# Altium footprint library 贴片半导体.PcbLib: 5 footprints
Each footprint in its own frame and in the unit in brackets; x right, y up, seen from the top. Pads: shape width x height; smd on the part's side, far side on the other; paste and mask are expansions set on the pad; w line width, h text height; cw(c..) or ccw(c..) is an arc to the next point about the centre after c.
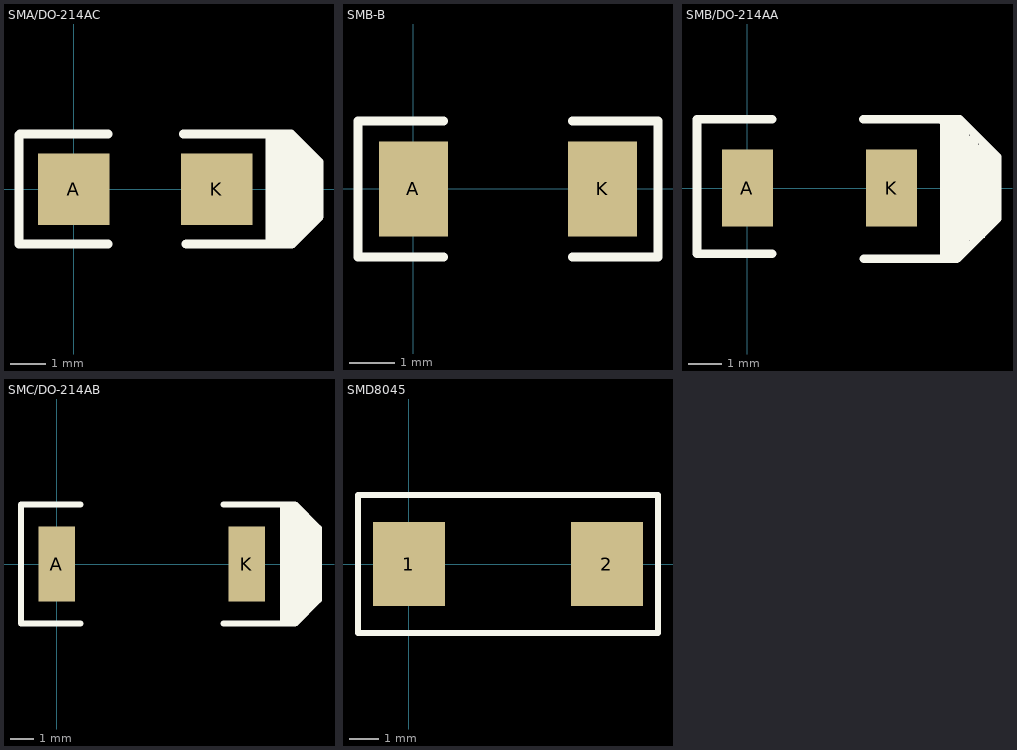
[diagram p0: the footprints below, top view; thin cyan lines are the x and y axes]

## SMA/DO-214AC [mm]
pads (2):
  rect 2x2 smd: A(0,0) K(4,0)
Top Overlay:
  rectangle: 6.35,-0.762 6.858,-0.381
  rectangle: 6.325,-0.61 6.858,0.762
  rectangle: 6.223,-1.118 6.625,0.995
  rectangle: 5.486,-1.295 6.379,1.241
  rectangle: 5.486,-1.473 6.147,1.524
  lines w0.254: -1.524,1.524 -1.524,-1.524 0.965,-1.524 ; -1.499,1.549 0.965,1.549 ; 3.073,1.549 5.486,1.549 6.02,1.549 6.071,1.549 6.833,0.787 6.858,0.762 6.858,-0.762 6.147,-1.473 6.096,-1.524 5.486,-1.524 ; 3.15,-1.524 5.486,-1.524 ; 5.486,1.524 5.486,-1.524 ; 6.262,1.358 6.262,1.033 6.262,0.825 6.431,0.995 6.498,0.995 6.858,0.635 ; 6.579,-0.838 6.579,-0.61

## SMB-B [mil]
pads (2):
  rect 60x82 smd: A(0,0) K(164,0)
Top Overlay:
  lines w8: 26,-59 -48,-59 -48,59 26,59 ; 138,-59 212,-59 212,59 138,59

## SMB/DO-214AA [mm]
pads (2):
  rect 1.52x2.3 smd: A(0,0) K(4.3,0)
Top Overlay:
  rectangle: 5.867,-2.108 6.248,1.956
  rectangle: 6.248,-1.981 6.376,1.956
  rectangle: 6.376,-1.864 6.492,1.956
  rectangle: 6.492,-1.864 6.601,1.781
  rectangle: 6.756,-1.482 6.875,1.626
  rectangle: 6.528,-1.565 6.791,1.575
  rectangle: 6.756,-1.482 7.083,1.299
  rectangle: 6.833,-1.092 7.442,0.94
  rectangle: 7.041,0.737 7.214,1.341
  rectangle: 7.191,0.737 7.214,1.191
  rectangle: 7.041,0.737 7.366,1.016
  lines w0.254: 0.744,-1.956 -1.499,-1.956 -1.499,2.057 0.749,2.057 ; 3.457,2.057 5.766,2.057 ; 3.475,-2.108 5.867,-2.108 ; 5.766,2.057 5.867,1.956 5.867,-2.108 ; 5.766,2.057 6.325,2.057 7.366,1.016 7.442,0.94 7.442,-0.914 6.248,-2.108 5.867,-2.108

## SMC/DO-214AB [mm]
pads (2):
  rect 1.55x3.2 smd: A(0,0) K(8.1,0)
Top Overlay:
  rectangle: 10.033,2.286 10.332,2.368
  rectangle: 10.344,1.975 10.552,2.148
  rectangle: 10.668,1.685 10.937,1.763
  rectangle: 10.611,1.708 10.798,1.902
  rectangle: 10.668,1.27 11.015,1.685
  rectangle: 10.541,-1.905 10.795,-1.397
  rectangle: 10.287,1.27 10.668,2.032
  rectangle: 9.906,-2.286 10.541,-1.397
  rectangle: 10.033,1.397 10.414,2.286
  rectangle: 10.16,-1.524 11.176,1.524
  rectangle: 9.652,-2.54 10.16,2.54
  lines w0.254: 1.016,-2.54 -1.524,-2.54 -1.524,2.54 1.016,2.54 ; 7.112,-2.54 9.652,-2.54 ; 7.112,2.54 9.652,2.54 ; 10.033,2.286 10.922,1.397 ; 10.922,-1.524 10.16,-2.286 10.16,-2.54 ; 9.652,-2.54 10.16,-2.54 ; 9.652,-2.54 9.652,2.54 ; 9.652,2.54 10.16,2.54 ; 10.16,-2.54 11.176,-1.524 11.176,1.524 ; 10.16,2.54 11.176,1.524 ; 10.16,2.54 11.176,1.524

## SMD8045 [mm]
pads (2):
  rect 2.4x2.8 smd: 1(0,0) 2(6.6,0)
Top Overlay:
  lines w0.203: -1.7,-2.3 -1.7,2.3 8.253,2.3 ; -1.653,-2.3 8.3,-2.3 8.3,2.3